# Altium footprint library LGA12.PcbLib: 1 footprints
Each footprint in its own frame and in the unit in brackets; x right, y up, seen from the top. Pads: shape width x height; smd on the part's side, far side on the other; paste and mask are expansions set on the pad; w line width, h text height; cw(c..) or ccw(c..) is an arc to the next point about the centre after c.
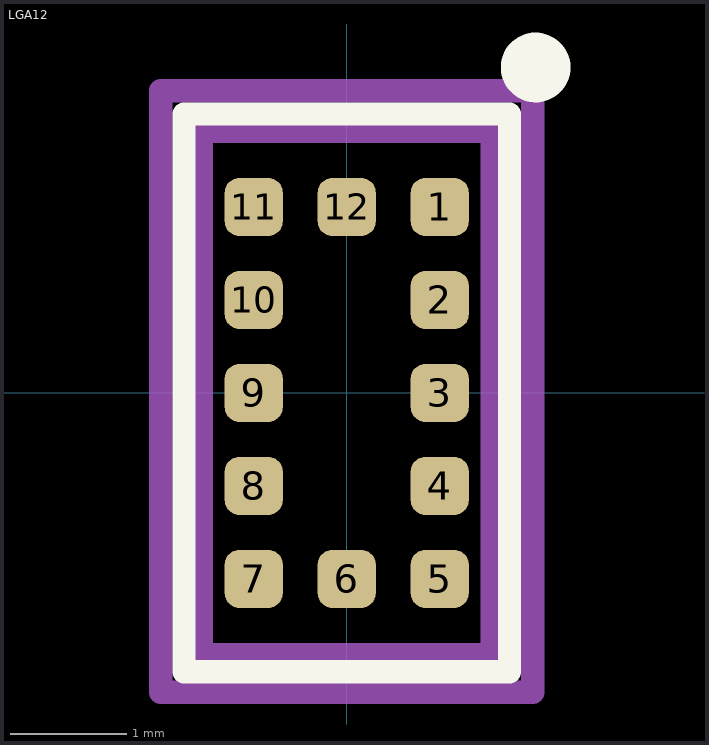
[diagram p0: the footprint, top view; thin cyan lines are the x and y axes]

## LGA12 [mm]
pads (12):
  rrect50% 0.5x0.5 smd mask+0.05: 1(0.8,1.6) 2(0.8,0.8) 3(0.8,0) 4(0.8,-0.8) 5(0.8,-1.6) 6(0,-1.6) 7(-0.8,-1.6) 8(-0.8,-0.8) 9(-0.8,0) 10(-0.8,0.8) 11(-0.8,1.6) 12(0,1.6)
Top Overlay:
  circle w0.4: c1.625,2.8 r0.1
  lines w0.2: -1.4,-2.4 1.4,-2.4 1.4,2.4 -1.4,2.4 -1.4,-2.4
Top Assembly:
  lines w0.2: -1.25,-2.25 1.25,-2.25 1.25,2.25 -1.25,2.25 -1.25,-2.25
Top Courtyard:
  lines w0.2: -1.6,-2.575 1.6,-2.575 1.6,2.6 -1.6,2.6 -1.6,-2.575
3D body "VL53L0X.step": height 0.7, standoff -0.31, extent -1.2,-2.2 1.2,2.2